# EAGLE library part M25PX16 (library tinyav-lib)
8-pin SPI Flash Memory
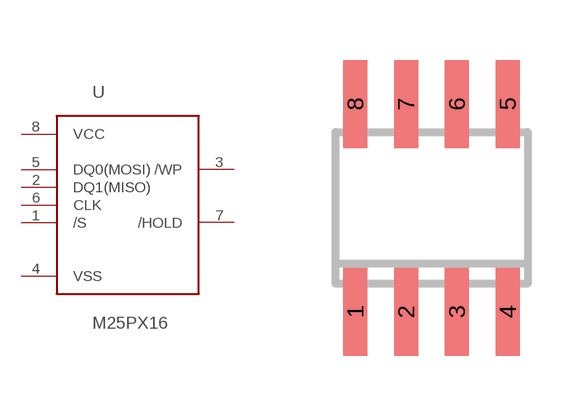
[diagram p4: symbol with the pads of SO8; footprint SO8]

Designator prefix -

## M25PX16  [SO8]
1  /S
2  DQ1(MISO)
3  /WP
4  VSS
5  DQ0(MOSI)
6  CLK
7  /HOLD
8  VCC

## Footprint SO8 (pad centres in mm)
8-Lead Small Outline IC (SO-8) Source: http://www.analog.com/UploadedFiles/Data_Sheets/703465986AD8611_2_0.pdf
smd 0.6 x 2.2: 1 -1.905,-2.6; 2 -0.635,-2.6; 3 0.635,-2.6; 4 1.905,-2.6; 5 1.905,2.6; 6 0.635,2.6; 7 -0.635,2.6; 8 -1.905,2.6